# EAGLE library part MM74C240N (library Fairchild_By_element14_Batch_1)
Inverting Non-Inverting Octal BufferTransparent Latch
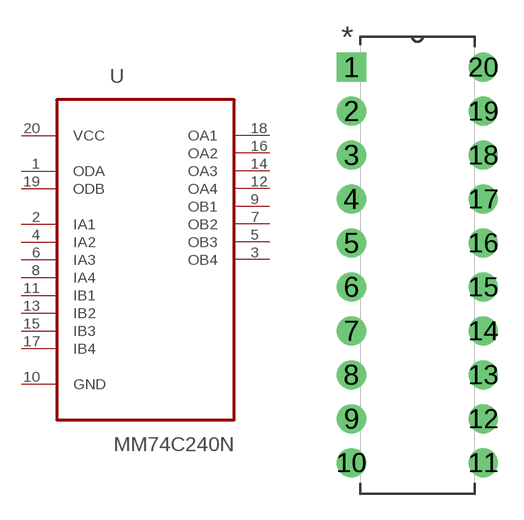
[diagram p225: symbol with the pads of DIP254P762X508-20; footprint DIP254P762X508-20]

Designator prefix U

## MM74C240N (MPN: MM74C240N; OC_FARNELL: -; OC_NEWARK: 58K1922; PACKAGE: PDIP-20; SUPPLIER: Fairchild)  [DIP254P762X508-20]
1  ODA  in
2  IA1  in
3  OB4  out
4  IA2  in
5  OB3  out
6  IA3  in
7  OB2  out
8  IA4  in
9  OB1  out
10  GND  pas
11  IB1  in
12  OA4  out
13  IB2  in
14  OA3  out
15  IB3  in
16  OA2  out
17  IB4  in
18  OA1  out
19  ODB  in
20  VCC  pwr

## Footprint DIP254P762X508-20 (pad centres in mm)
drill 1.118 square: 1 -7.62,22.86
drill 1.118: 2 -7.62,20.32; 3 -7.62,17.78; 4 -7.62,15.24; 5 -7.62,12.7; 6 -7.62,10.16; 7 -7.62,7.62; 8 -7.62,5.08; 9 -7.62,2.54; 10 -7.62,0; 11 0,0; 12 0,2.54; 13 0,5.08; 14 0,7.62; 15 0,10.16; 16 0,12.7; 17 0,15.24; 18 0,17.78; 19 0,20.32; 20 0,22.86